# Altium schematic symbol library IC - Logic.SchLib: 1 symbol
Pins are listed as number, name and electrical type; pins without a type are passive.

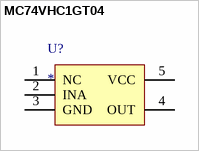
[diagram p0: symbol MC74VHC1GT04]

## MC74VHC1GT04
designator U?
footprint SOT-23-5
pins: 1 NC, 2 INA, 3 GND, 4 OUT, 5 VCC